# Altium schematic symbol library Logic.SchLib: 2 symbols
Pins are listed as number, name and electrical type; pins without a type are passive.

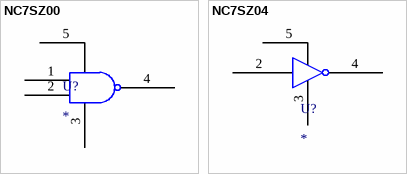
[diagram p0: symbols NC7SZ00 to NC7SZ04]

## NC7SZ00
designator U?
NAND Gate; Supplier 1: Digi-Key; Supplier Part Number 1: NC7SZ00M5XCT-ND
footprint ON SEMI SOT-23-5 NTR (SOT23, 5-Leads, Body 2.90x2.80mm, Pitch 0.95mm, IPC Medium Density)
pins: 1 A, 2 B, 3 GND, 4 OUT, 5 Vcc

## NC7SZ04
designator U?
NOT Gate; Supplier 1: Digi-Key; Supplier Part Number 1: NC7SZ04P5XCT-ND
footprint ON SEMI SOT-23-5 NTR (SOT23, 5-Leads, Body 2.90x2.80mm, Pitch 0.95mm, IPC Medium Density)
pins: 2 A, 3 GND, 4 ~A, 5 Vcc